# Altium footprint library 2005Parts.PCBLIB: 27 footprints (part 1 of 2)
Each footprint in its own frame and in the unit in brackets; x right, y up, seen from the top. Pads: shape width x height; smd on the part's side, far side on the other; paste and mask are expansions set on the pad; w line width, h text height; cw(c..) or ccw(c..) is an arc to the next point about the centre after c.
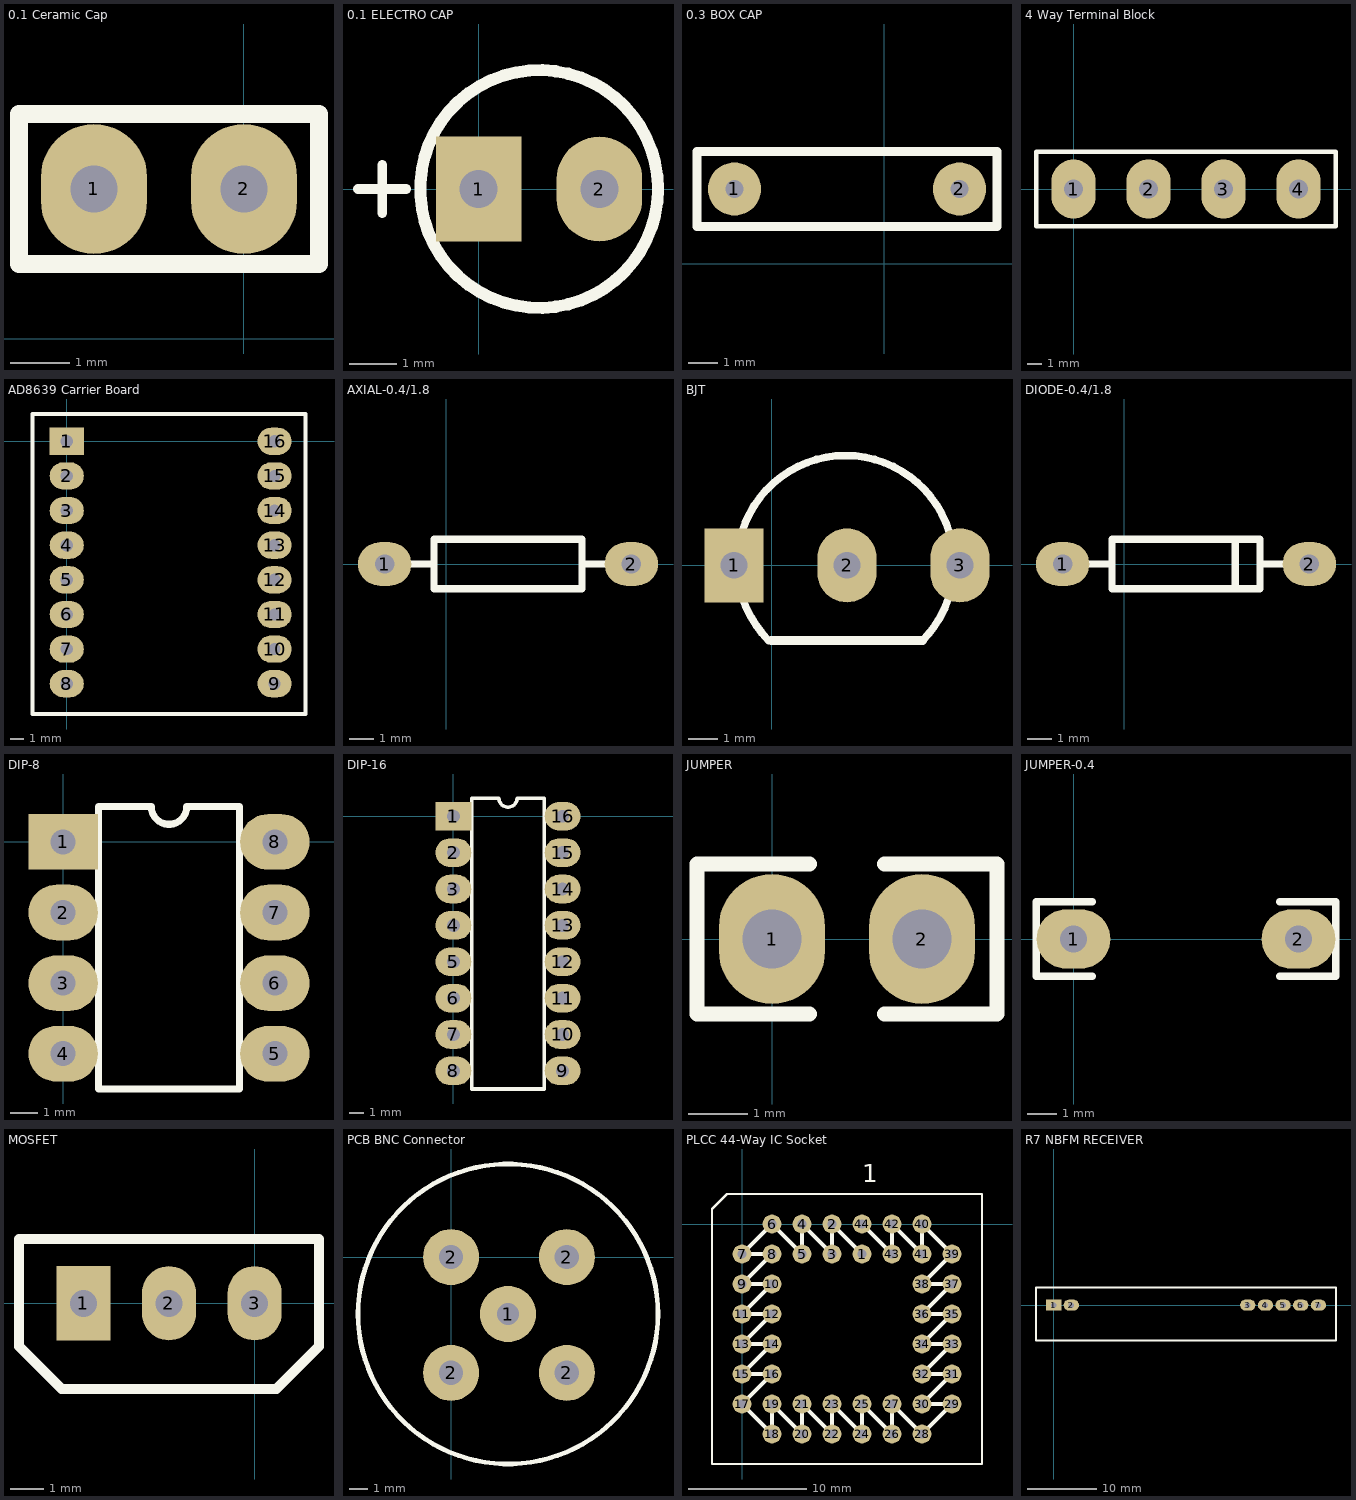
[diagram p0: the footprints below, top view; thin cyan lines are the x and y axes]

## 0.1 Ceramic Cap [mm]
pads (2):
  oval 1.8x2.2 hole 0.8: 1(-2.54,2.54) 2(0,2.54)
Top Overlay:
  lines w0.305: -3.81,1.27 1.27,1.27 1.27,3.81 -3.81,3.81 -3.81,1.27

## 0.1 ELECTRO CAP [mm] "Electrolytic Cap"
height 10
pads (2):
  rect 1.8x2.2 hole 0.8: 1(0,0)
  oval 1.8x2.2 hole 0.8: 2(2.54,0)
Top Overlay:
  circle w0.254: c1.27,0 r2.502
  lines w0.2: -2.54,0 -1.524,0 ; -2.032,-0.508 -2.032,0.508

## 0.3 BOX CAP [mm]
pads (2):
  round 1.8 hole 0.6: 1(-5.08,2.54) 2(2.54,2.54)
Top Overlay:
  lines w0.305: -6.35,1.27 -6.35,3.81 3.81,3.81 3.81,1.27 -6.35,1.27

## 4 Way Terminal Block [mm]
pads (4):
  oval 3x4 hole 1.3: 1(0,0) 2(5.08,0) 3(10.16,0) 4(15.24,0)
Top Overlay:
  lines w0.305: -2.54,-2.54 17.78,-2.54 17.78,2.54 -2.54,2.54 -2.54,-2.54

## AD8639 Carrier Board [mm]
height 15
pads (16):
  rect 2.5x2 hole 0.9: 1(0,0)
  oval 2.5x2 hole 0.9: 2(0,-2.54) 3(0,-5.08) 4(0,-7.62) 5(0,-10.16) 6(0,-12.7) 7(0,-15.24) 8(0,-17.78) 9(15.24,-17.78) 10(15.24,-15.24) 11(15.24,-12.7) 12(15.24,-10.16) 13(15.24,-7.62) 14(15.24,-5.08) 15(15.24,-2.54) 16(15.24,0)
Top Overlay:
  lines w0.305: -2.5,-20 17.5,-20 17.5,2 -2.5,2 -2.5,-20

## AXIAL-0.4/1.8 [mm]
pads (2):
  oval 2.2x1.8 hole 0.8: 1(-2.54,0) 2(7.62,0)
Top Overlay:
  lines w0.305: -1.524,0 -0.508,0 ; 5.588,0 6.604,0 ; -0.508,-1.016 -0.508,1.016 5.588,1.016 5.588,-1.016 -0.508,-1.016

## BJT [mm]
height 10
pads (3):
  rect 2x2.5 hole 0.9: 1(-1.27,0)
  oval 2x2.5 hole 0.9: 2(2.54,0) 3(6.35,0)
Top Overlay:
  lines w0.254: -0.095,-2.54 cw(c2.493,0.047) 5.08,-2.54
  lines w0.305: 0,-2.54 5.08,-2.54

## DIODE-0.4/1.8 [mm]
pads (2):
  oval 2.2x1.8 hole 0.8: 1(-2.54,0) 2(7.62,0)
Top Overlay:
  lines w0.305: -1.524,0 -0.508,0 ; 4.572,-1.016 4.572,1.016 ; 5.588,0 6.096,0 6.604,0 ; -0.508,-1.016 5.588,-1.016 5.588,1.016 -0.508,1.016 -0.508,-1.016

## DIP-8 [mm]
pads (8):
  rect 2.5x2 hole 0.9: 1(0,0)
  oval 2.5x2 hole 0.9: 2(0,-2.54) 3(0,-5.08) 4(0,-7.62) 5(7.62,-7.62) 6(7.62,-5.08) 7(7.62,-2.54) 8(7.62,0)
Top Overlay:
  lines w0.254: 1.27,-8.89 1.27,1.27 3.175,1.27 ccw(c3.81,1.27) 4.445,1.27 6.35,1.27 6.35,-8.89 1.27,-8.89

## DIP-16 [mm]
pads (16):
  rect 2.5x2 hole 0.9: 1(0,0)
  oval 2.5x2 hole 0.9: 2(0,-2.54) 3(0,-5.08) 4(0,-7.62) 5(0,-10.16) 6(0,-12.7) 7(0,-15.24) 8(0,-17.78) 9(7.62,-17.78) 10(7.62,-15.24) 11(7.62,-12.7) 12(7.62,-10.16) 13(7.62,-7.62) 14(7.62,-5.08) 15(7.62,-2.54) 16(7.62,0)
Top Overlay:
  lines w0.254: 1.27,-19.05 1.27,1.27 3.175,1.27 ccw(c3.81,1.27) 4.445,1.27 6.35,1.27 6.35,-19.05 1.27,-19.05

## JUMPER [mm]
pads (2):
  oval 1.8x2.2 hole 1: 1(0,0) 2(2.54,0)
Top Overlay:
  lines w0.254: 0.635,-1.27 -1.27,-1.27 -1.27,1.27 0.635,1.27 ; 1.905,-1.27 3.81,-1.27 3.81,1.27 1.905,1.27

## JUMPER-0.4 [mm]
pads (2):
  oval 2.5x2 hole 0.9: 1(0,0) 2(7.62,0)
Top Overlay:
  lines w0.254: 0.635,-1.27 -1.27,-1.27 -1.27,1.27 0.635,1.27 ; 6.985,-1.27 8.89,-1.27 8.89,1.27 6.985,1.27

## MOSFET [mm]
pads (3):
  rect 1.6x2.2 hole 0.8: 1(-5.08,0)
  oval 1.6x2.2 hole 0.8: 2(-2.54,0) 3(0,0)
Top Overlay:
  lines w0.305: -6.985,-1.27 -5.715,-2.54 0.635,-2.54 1.905,-1.27 1.905,1.905 -6.985,1.905 -6.985,-1.27

## PCB BNC Connector [mm]
height 20
pads (5):
  round 3 hole 1.2: 1(3.048,-3.048)
  round 3 hole 1.3: 2(0,-6.2) 2(0,0) 2(6.2,-6.2) 2(6.2,0)
Top Overlay:
  circle w0.254: c3.048,-3.048 r8.032

## PLCC 44-Way IC Socket [mm]
pads (44):
  round 1.6 hole 0.8: 1(10.16,-2.54) 2(7.62,0) 3(7.62,-2.54) 4(5.08,0) 5(5.08,-2.54) 6(2.54,0) 7(0,-2.54) 8(2.54,-2.54) 9(0,-5.08) 10(2.54,-5.08) 11(0,-7.62) 12(2.54,-7.62) 13(0,-10.16) 14(2.54,-10.16) 15(0,-12.7) 16(2.54,-12.7) 17(0,-15.24) 18(2.54,-17.78) 19(2.54,-15.24) 20(5.08,-17.78) 21(5.08,-15.24) 22(7.62,-17.78) 23(7.62,-15.24) 24(10.16,-17.78) 25(10.16,-15.24) 26(12.7,-17.78) 27(12.7,-15.24) 28(15.24,-17.78) 29(17.78,-15.24) 30(15.24,-15.24) 31(17.78,-12.7) 32(15.24,-12.7) 33(17.78,-10.16) 34(15.24,-10.16) 35(17.78,-7.62) 36(15.24,-7.62) 37(17.78,-5.08) 38(15.24,-5.08) 39(17.78,-2.54) 40(15.24,0) 41(15.24,-2.54) 42(12.7,0) 43(12.7,-2.54) 44(10.16,0)
Top Overlay:
  lines w0.2: -2.54,-20.32 20.32,-20.32 20.32,2.54 -1.27,2.54 -2.54,1.27 -2.54,-20.32
  lines w0.305: 10.16,-2.54 7.62,0 7.62,-2.54 5.08,0 5.08,-2.54 2.54,0 0,-2.54 2.54,-2.54 0,-5.08 2.54,-5.08 0,-7.62 2.54,-7.62 0,-10.16 2.54,-10.16 0,-12.7 2.54,-12.7 0,-15.24 2.54,-17.78 2.54,-15.24 5.08,-17.78 5.08,-15.24 7.62,-17.78 7.62,-15.24 10.16,-17.78 10.16,-15.24 12.7,-17.78 12.7,-15.24 15.24,-17.78 17.78,-15.24 15.24,-15.24 17.78,-12.7 15.24,-12.7 17.78,-10.16 15.24,-10.16 17.78,-7.62 15.24,-7.62 17.78,-5.08 15.24,-5.08 17.78,-2.54 15.24,0 15.24,-2.54 12.7,0 12.7,-2.54 10.16,0
  text "1" at 10.16,3.556 h1.52

## R7 NBFM RECEIVER [mm]
height 10.5
pads (7):
  rect 2.2x1.6 hole 0.8: 1(0,0)
  oval 2.2x1.6 hole 0.8: 2(2.54,0) 3(27.94,0) 4(30.48,0) 5(33.02,0) 6(35.56,0) 7(38.1,0)
Top Overlay:
  lines w0.254: -2.54,-5.08 40.64,-5.08 40.64,2.54 -2.54,2.54 -2.54,-5.08